# Altium schematic symbol library CAP,Alum,270uF,35VDC,Radial,Thru.Schlib: 1 symbol
Pins are listed as number, name and electrical type; pins without a type are passive.

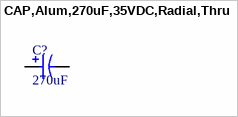
[diagram p0: symbol CAP,Alum,270uF,35VDC,Radial,Thru]

## CAP,Alum,270uF,35VDC,Radial,Thru
designator C?, comment 270uF
270 µF 35 V Aluminum Electrolytic Capacitors Radial, Can - 6000 Hrs @ 105°C
pins: 1, 2